# Altium footprint library BLE.PcbLib: 57 footprints (part 4 of 4)
Each footprint in its own frame and in the unit in brackets; x right, y up, seen from the top. Pads: shape width x height; smd on the part's side, far side on the other; paste and mask are expansions set on the pad; w line width, h text height; cw(c..) or ccw(c..) is an arc to the next point about the centre after c.
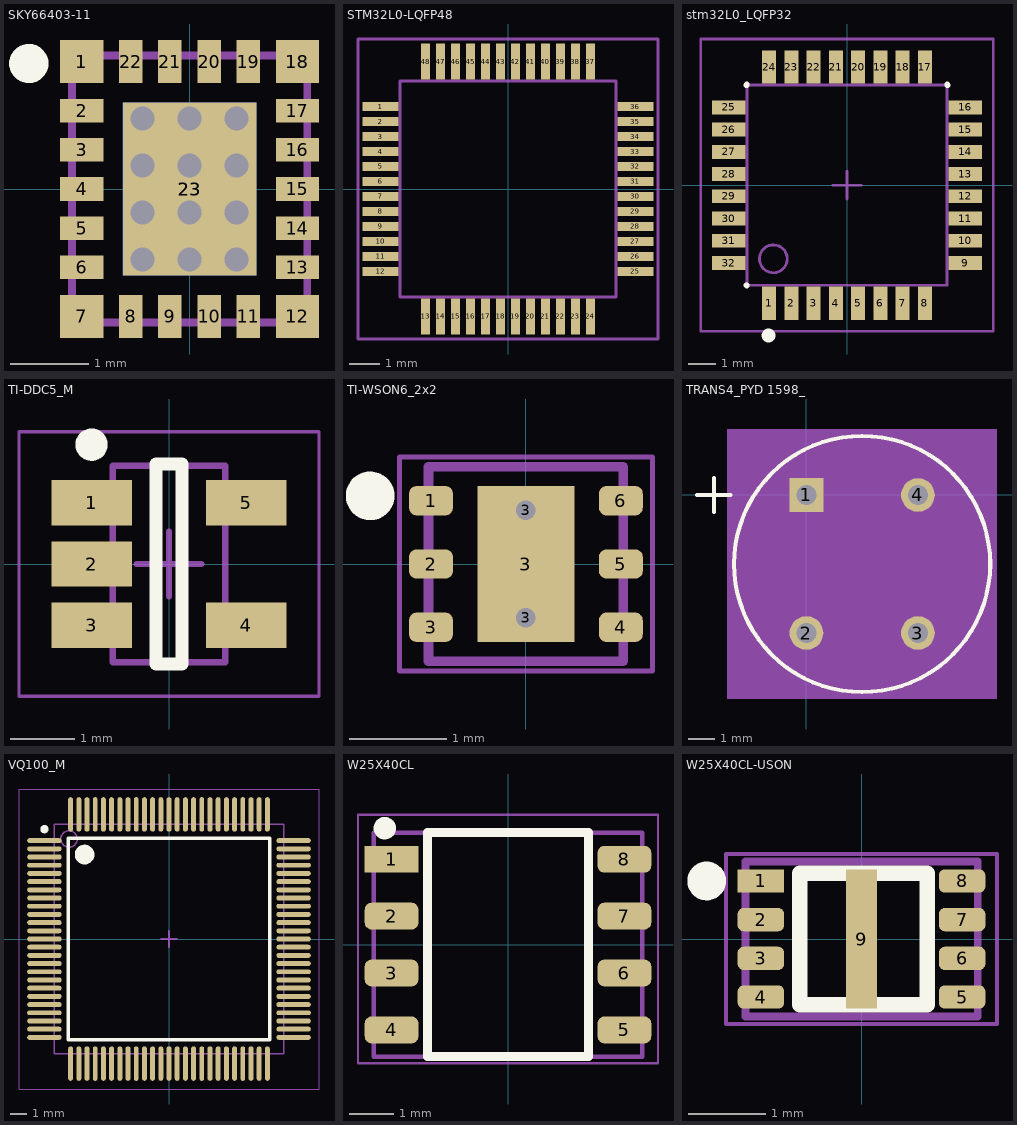
[diagram p3: the footprints below, top view; thin cyan lines are the x and y axes]

## SKY66403-11 [mm]
pads (24):
  rect 0.55x0.55 smd mask+0.05: 1(-1.375,1.625) 7(-1.375,-1.625) 12(1.375,-1.625) 18(1.375,1.625)
  rect 0.55x0.3 smd mask+0.05: 2(-1.375,1) 3(-1.375,0.5) 4(-1.375,0) 5(-1.375,-0.5) 6(-1.375,-1) 13(1.375,-1) 14(1.375,-0.5) 15(1.375,0) 16(1.375,0.5) 17(1.375,1)
  rect 0.3x0.55 smd mask+0.05: 8(-0.75,-1.625) 9(-0.25,-1.625) 10(0.25,-1.625) 11(0.75,-1.625) 19(0.75,1.625) 20(0.25,1.625) 21(-0.25,1.625) 22(-0.75,1.625)
  rect 1.7x2.2 smd mask+0.05: 23(0,0)
  rect 1.7x2.2 smd far side mask+0.05: 23(0,0)
via -0.6,0.9 diameter 0.406 hole 0.305
via -0.6,0.3 diameter 0.406 hole 0.305
via -0.6,-0.3 diameter 0.406 hole 0.305
via -0.6,-0.9 diameter 0.406 hole 0.305
via 0.6,-0.9 diameter 0.406 hole 0.305
via 0.6,-0.3 diameter 0.406 hole 0.305
via 0.6,0.9 diameter 0.406 hole 0.305
via 0.6,0.3 diameter 0.406 hole 0.305
via 0,0.9 diameter 0.406 hole 0.305
via 0,-0.9 diameter 0.406 hole 0.305
via 0,-0.3 diameter 0.406 hole 0.305
via 0,0.3 diameter 0.406 hole 0.305
Top Layer:
  lines w0.203: 1.325,1.625 1.375,1.625 1.325,1.625
Top Overlay:
  circle w0.25: c-2.05,1.6 r0.125
Mechanical 13:
  lines w0.1: -1.5,-1.7 -1.5,1.7 1.5,1.7 1.5,-1.7 -1.5,-1.7
3D body: height 0.5, standoff 0, extent -1.5,-1.7 1.5,1.7

## STM32L0-LQFP48 [mm]
pads (48):
  rect 1.2x0.3 smd: 1(-4.25,2.75) 2(-4.25,2.25) 3(-4.25,1.75) 4(-4.25,1.25) 5(-4.25,0.75) 6(-4.25,0.25) 7(-4.25,-0.25) 8(-4.25,-0.75) 9(-4.25,-1.25) 10(-4.25,-1.75) 11(-4.25,-2.25) 12(-4.25,-2.75) 25(4.25,-2.75) 26(4.25,-2.25) 27(4.25,-1.75) 28(4.25,-1.25) 29(4.25,-0.75) 30(4.25,-0.25) 31(4.25,0.25) 32(4.25,0.75) 33(4.25,1.25) 34(4.25,1.75) 35(4.25,2.25) 36(4.25,2.75)
  rect 0.3x1.2 smd: 13(-2.75,-4.25) 14(-2.25,-4.25) 15(-1.75,-4.25) 16(-1.25,-4.25) 17(-0.75,-4.25) 18(-0.25,-4.25) 19(0.25,-4.25) 20(0.75,-4.25) 21(1.25,-4.25) 22(1.75,-4.25) 23(2.25,-4.25) 24(2.75,-4.25) 37(2.75,4.25) 38(2.25,4.25) 39(1.75,4.25) 40(1.25,4.25) 41(0.75,4.25) 42(0.25,4.25) 43(-0.25,4.25) 44(-0.75,4.25) 45(-1.25,4.25) 46(-1.75,4.25) 47(-2.25,4.25) 48(-2.75,4.25)
Mechanical 13:
  lines w0.1: -3.6,-3.6 3.6,-3.6 3.6,3.6 -3.6,3.6 -3.6,-3.6
Mechanical 15:
  lines w0.1: -5,-5 5,-5 5,5 -5,5 -5,-5
3D body: height 1.6, standoff 0.05, extent -3.6,-3.6 3.6,3.6

## stm32L0_LQFP32 [mm] "LQFP32 Recommended ,32 Pin MCU Size,7x7mm, Pitch, 0.8mm"
height 1.6
pads (32):
  rect 0.5x1.2 smd: 1(-2.8,-4.25) 2(-2,-4.25) 3(-1.2,-4.25) 4(-0.4,-4.25) 5(0.4,-4.25) 6(1.2,-4.25) 7(2,-4.25) 8(2.8,-4.25) 17(2.8,4.25) 18(2,4.25) 19(1.2,4.25) 20(0.4,4.25) 21(-0.4,4.25) 22(-1.2,4.25) 23(-2,4.25) 24(-2.8,4.25)
  rect 1.2x0.5 smd: 9(4.25,-2.8) 10(4.25,-2) 11(4.25,-1.2) 12(4.25,-0.4) 13(4.25,0.4) 14(4.25,1.2) 15(4.25,2) 16(4.25,2.8) 25(-4.25,2.8) 26(-4.25,2) 27(-4.25,1.2) 28(-4.25,0.4) 29(-4.25,-0.4) 30(-4.25,-1.2) 31(-4.25,-2) 32(-4.25,-2.8)
Top Overlay:
  circle w0.25: c-2.819,-5.408 r0.125
  lines w0.2: -3.625,-3.6 -3.6,-3.6 -3.6,-3.625 ; -3.625,3.6 -3.6,3.6 -3.6,3.625 ; 3.6,3.625 3.6,3.6 3.625,3.6
Mechanical 13:
  circle w0.1: c-2.65,-2.65 r0.5
  lines w0.1: -3.6,-3.6 3.6,-3.6 3.6,3.6 -3.6,3.6 -3.6,-3.6
Mechanical 15:
  lines w0.1: -0.5,0 0.5,0 ; 0,-0.5 0,0.5 ; -5.258,-5.258 5.258,-5.258 5.258,5.258 -5.258,5.258 -5.258,-5.258
3D body: height 1.6, standoff 0.05, extent -3.6,-3.6 3.6,3.6

## TI-DDC5_M [mm] "SOT23, 5-Leads, Body 2.9x1.6mm, Pitch 0.95mm, IPC Low Density"
height 1.1
pads (5):
  rect 1.25x0.7 smd: 1(-1.2,0.95) 2(-1.2,0) 3(-1.2,-0.95) 4(1.2,-0.95) 5(1.2,0.95)
Top Overlay:
  circle w0.25: c-1.2,1.85 r0.125
  lines w0.2: -0.2,-1.55 -0.2,1.55 0.2,1.55 0.2,-1.55 -0.2,-1.55
Mechanical 13:
  lines w0.1: -0.875,-1.525 0.875,-1.525 0.875,1.525 -0.875,1.525 -0.875,-1.525
Mechanical 15:
  lines w0.05: -2.325,-2.05 2.325,-2.05 2.325,2.05 -2.325,2.05 -2.325,-2.05
  lines w0.1: -0.5,0 0.5,0 ; 0,-0.5 0,0.5
3D body: height 1.1, standoff 0, extent -0.875,-1.525 0.875,1.525

## TI-WSON6_2x2 [mm]
pads (9):
  rrect50% 0.45x0.3 smd mask+0.07: 1(-0.975,0.65) 2(-0.975,0) 3(-0.975,-0.65) 4(0.975,-0.65) 5(0.975,0) 6(0.975,0.65)
  round 0.2 hole 0.2: 3(0,-0.55) 3(0,0.55)
  rect 1x1.6 smd mask+0.08: 3(0,0)
Top Overlay:
  circle w0.25: c-1.6,0.7 r0.125
Mechanical 13:
  lines w0.1: -1,-1 -1,1 1,1 1,-1 -1,-1
Mechanical 15:
  lines w0.05: -1.3,-1.1 1.3,-1.1 1.3,1.1 -1.3,1.1 -1.3,-1.1
3D body: height 0.5, standoff 0, extent -1,-1 1,1

## TRANS4_PYD 1598_ [mm]
height 2.5
pads (4):
  rect 1.27x1.27 hole 0.762 mask+0: 1(0,0)
  round 1.27 hole 0.762 mask+0: 2(0,-5.2) 3(4.2,-5.2) 4(4.2,0)
Top Overlay:
  circle w0.152: c2.1,-2.6 r4.826
  lines w0.152: -4.123,0 -2.853,0 ; -3.488,-0.635 -3.488,0.635
Mechanical 5:
  region: 7.18,-7.68 -2.98,-7.68 -2.98,2.48 7.18,2.48
Mechanical 13:
  circle w0: c2.1,-2.6 r4.699
  lines w0.025: -4.123,0 -2.853,0 ; -3.488,-0.635 -3.488,0.635
Mechanical 15:
  region: -2.853,-0.561 0.061,2.353 4.139,2.353 7.053,-0.561 7.053,-4.639 4.139,-7.553 0.061,-7.553 -2.853,-4.639
  lines w0.025: -2.853,-4.639 0.061,-7.553 4.139,-7.553 7.053,-4.639 7.053,-0.561 4.139,2.353 0.061,2.353 -2.853,-0.561 -2.853,-4.639
3D body: height 0.25, standoff 0, extent 0,0 0.254,0.254

## VQ100_M [mm] "Thin QFP, 100-Leads, Body 14x14mm, Pitch 0.5mm, IPC Low Density"
height 1.2
pads (100):
  oval 2.1x0.3 smd: 1(-7.6,6) 2(-7.6,5.5) 3(-7.6,5) 4(-7.6,4.5) 5(-7.6,4) 6(-7.6,3.5) 7(-7.6,3) 8(-7.6,2.5) 9(-7.6,2) 10(-7.6,1.5) 11(-7.6,1) 12(-7.6,0.5) 13(-7.6,0) 14(-7.6,-0.5) 15(-7.6,-1) 16(-7.6,-1.5) 17(-7.6,-2) 18(-7.6,-2.5) 19(-7.6,-3) 20(-7.6,-3.5) 21(-7.6,-4) 22(-7.6,-4.5) 23(-7.6,-5) 24(-7.6,-5.5) 25(-7.6,-6) 51(7.6,-6) 52(7.6,-5.5) 53(7.6,-5) 54(7.6,-4.5) 55(7.6,-4) 56(7.6,-3.5) 57(7.6,-3) 58(7.6,-2.5) 59(7.6,-2) 60(7.6,-1.5) 61(7.6,-1) 62(7.6,-0.5) 63(7.6,0) 64(7.6,0.5) 65(7.6,1) 66(7.6,1.5) 67(7.6,2) 68(7.6,2.5) 69(7.6,3) 70(7.6,3.5) 71(7.6,4) 72(7.6,4.5) 73(7.6,5) 74(7.6,5.5) 75(7.6,6)
  oval 0.3x2.1 smd: 26(-6,-7.6) 27(-5.5,-7.6) 28(-5,-7.6) 29(-4.5,-7.6) 30(-4,-7.6) 31(-3.5,-7.6) 32(-3,-7.6) 33(-2.5,-7.6) 34(-2,-7.6) 35(-1.5,-7.6) 36(-1,-7.6) 37(-0.5,-7.6) 38(0,-7.6) 39(0.5,-7.6) 40(1,-7.6) 41(1.5,-7.6) 42(2,-7.6) 43(2.5,-7.6) 44(3,-7.6) 45(3.5,-7.6) 46(4,-7.6) 47(4.5,-7.6) 48(5,-7.6) 49(5.5,-7.6) 50(6,-7.6) 76(6,7.6) 77(5.5,7.6) 78(5,7.6) 79(4.5,7.6) 80(4,7.6) 81(3.5,7.6) 82(3,7.6) 83(2.5,7.6) 84(2,7.6) 85(1.5,7.6) 86(1,7.6) 87(0.5,7.6) 88(0,7.6) 89(-0.5,7.6) 90(-1,7.6) 91(-1.5,7.6) 92(-2,7.6) 93(-2.5,7.6) 94(-3,7.6) 95(-3.5,7.6) 96(-4,7.6) 97(-4.5,7.6) 98(-5,7.6) 99(-5.5,7.6) 100(-6,7.6)
Top Overlay:
  circle w0.25: c-7.6,6.7 r0.125
  circle w0.6: c-5.15,5.15 r0.3
  lines w0.2: -6.15,-6.15 -6.15,6.15 6.15,6.15 6.15,-6.15 -6.15,-6.15
Mechanical 13:
  circle w0.1: c-6.1,6.1 r0.5
  lines w0.1: -7,-7 -7,7 7,7 7,-7 -7,-7
Mechanical 15:
  lines w0.05: -9.15,-9.15 -9.15,9.15 9.15,9.15 9.15,-9.15 -9.15,-9.15
  lines w0.1: -0.5,0 0.5,0 ; 0,-0.5 0,0.5
3D body: height 1.6, standoff 0, extent -7,-7 7,7

## W25X40CL [mm]
pads (8):
  rect 1.2x0.6 smd: 1(-2.6,1.905)
  rrect50% 1.2x0.6 smd: 2(-2.6,0.635) 3(-2.6,-0.635) 4(-2.6,-1.905) 5(2.6,-1.905) 6(2.6,-0.635) 7(2.6,0.635) 8(2.6,1.905)
Top Overlay:
  circle w0.25: c-2.75,2.6 r0.125
  lines w0.2: -1.8,-2.5 -1.8,2.5 1.8,2.5 1.8,-2.5 -1.8,-2.5
Mechanical 13:
  lines w0.1: -3,-2.5 -3,2.5 3,2.5 3,-2.5 -3,-2.5
Mechanical 15:
  lines w0.05: -3.35,-2.65 3.35,-2.65 3.35,2.9 -3.35,2.9 -3.35,-2.65
3D body: height 0.5, standoff 0, extent -3,-2.5 3,2.5

## W25X40CL-USON [mm]
pads (9):
  rect 0.6x0.3 smd: 1(-1.3,0.75)
  rrect50% 0.6x0.3 smd: 2(-1.3,0.25) 3(-1.3,-0.25) 4(-1.3,-0.75) 5(1.3,-0.75) 6(1.3,-0.25) 7(1.3,0.25) 8(1.3,0.75)
  rect 0.4x1.8 smd: 9(0,0)
Top Overlay:
  circle w0.25: c-2,0.75 r0.125
  lines w0.2: -0.8,-0.85 -0.8,0.85 0.85,0.85 0.85,-0.85 -0.8,-0.85
Mechanical 13:
  lines w0.1: -1.5,-1 -1.5,1 1.5,1 1.5,-1 -1.5,-1
Mechanical 15:
  lines w0.05: -1.75,-1.1 1.75,-1.1 1.75,1.1 -1.75,1.1 -1.75,-1.1
3D body: height 0.5, standoff 0, extent -1.5,-1 1.5,1